# Altium schematic symbol library EEV106M035A9DAA.SchLib: 1 symbol
Pins are listed as number, name and electrical type; pins without a type are passive.

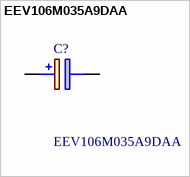
[diagram p0: symbol EEV106M035A9DAA]

## EEV106M035A9DAA
designator C?
EEV, Aluminum, Aluminum Electrolytic, 10 uF, 20%, 35 VDC, -55/+105C, 105C, -55C, 105C, 2,000 Hrs, 12 % , 1 Ohms,0.112, 3.5 uA, 2, 3, 5mm, 5.4mm, 1000; Manufacturer_Name: KEMET; Geometry.Height: 5.65mm; Mouser Part Number: 80-EEV106M035A9DAA; Mouser Price/Stock: https://www.mouser.co.uk/ProductDetail/KEMET/EEV106M035A9DAA?qs=T9vdlufmP8w%252BWofJB8ECzg%3D%3D; Manufacturer_Part_Number: EEV106M035A9DAA; Datasheet Link: https://content.kemet.com/datasheets/KEM_A4002_EEV.pdf
footprint CAPAE530X565N
pins: 1 +, 2 -